# EAGLE library part SM07B-NSHSS-TB (library NSH)
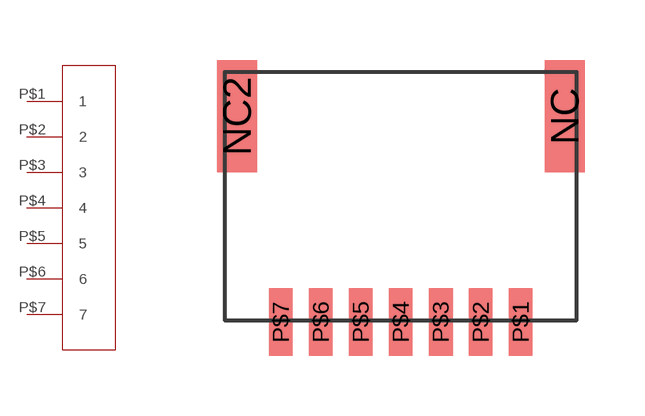
[diagram p11: symbol with the pads of SM07B-NSHSS-TB; footprint SM07B-NSHSS-TB]

Designator prefix -

## SM07B-NSHSS-TB  [SM07B-NSHSS-TB]
P$1  1
P$2  2
P$3  3
P$4  4
P$5  5
P$6  6
P$7  7

## Footprint SM07B-NSHSS-TB (pad centres in mm)
smd 1 x 2.8: NC 4.1,-1.4; NC2 -4.1,-1.4
smd 0.6 x 1.7: P$1 3,-6.55; P$2 2,-6.55; P$3 1,-6.55; P$4 0,-6.55; P$5 -1,-6.55; P$6 -2,-6.55; P$7 -3,-6.55